# Altium footprint library Passive.PcbLib: 4 footprints
Each footprint in its own frame and in the unit in brackets; x right, y up, seen from the top. Pads: shape width x height; smd on the part's side, far side on the other; paste and mask are expansions set on the pad; w line width, h text height; cw(c..) or ccw(c..) is an arc to the next point about the centre after c.
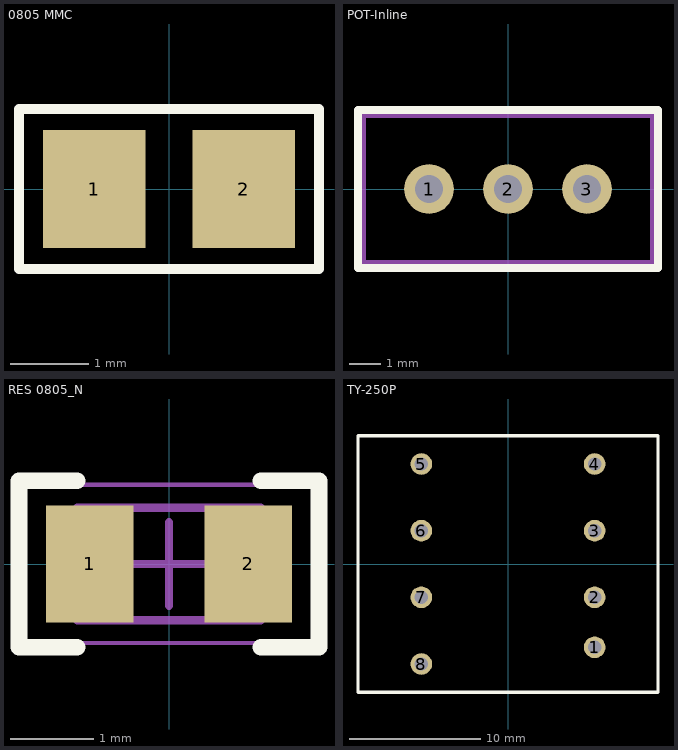
[diagram p0: the footprints below, top view; thin cyan lines are the x and y axes]

## 0805 MMC [mm]
pads (2):
  rect 1.3x1.5 smd: 1(-0.95,0) 2(0.95,0)
Top Overlay:
  lines w0.125: -1.905,-1.016 -1.905,1.016 1.905,1.016 1.905,-1.016 -1.905,-1.016
3D body "0805_RES.stp": height 0.61, standoff 0, extent -1.016,-0.635 0.984,0.615

## POT-Inline [mm]
pads (3):
  round 1.6 hole 0.9 unplated paste+0: 1(-2.54,0) 2(0,0) 3(2.54,0)
Top Overlay:
  lines w0.254: -4.826,-2.54 4.826,-2.54 4.826,2.54 -4.826,2.54 -4.826,-2.54
Mechanical 13:
  lines w0.254: -4.699,-2.413 -4.699,2.413 4.699,2.413 4.699,-2.413 -4.699,-2.413
3D body "pv36w.stp": height 11.62, standoff -6.33, extent -4.763,-2.413 4.762,2.413

## RES 0805_N [mm] "Chip Resistor, Body 2.0x1.3mm, IPC Medium Density"
height 0.7
pads (2):
  rect 1.05x1.4 smd: 1(-0.95,0) 2(0.95,0)
Top Overlay:
  lines w0.2: -1.1,-1 -1.8,-1 -1.8,1 -1.1,1 ; 1.1,-1 1.8,-1 1.8,1 1.1,1
Mechanical 13:
  lines w0.1: -1.1,-0.675 1.1,-0.675 1.1,0.675 -1.1,0.675 -1.1,-0.675
Mechanical 15:
  lines w0.05: -1.75,-0.95 1.75,-0.95 1.75,0.95 -1.75,0.95 -1.75,-0.95
  lines w0.1: -0.5,0 0.5,0 ; 0,-0.5 0,0.5
3D body "SMD RESISTOR-0805.step": height 0.62, standoff 0.02, extent -1,-0.625 1,0.625

## TY-250P [mil]
pads (8):
  round 65 hole 40 unplated paste+0: 1(260,-250) 2(260,-100) 3(260,100) 4(260,300) 5(-260,300) 6(-260,100) 7(-260,-100) 8(-260,-300)
Top Overlay:
  lines w10: -450,-385 450,-385 450,385 -450,385 -450,-385
3D body "Triad Magnetics-TY-250P.STEP": height 685, standoff -125, extent -450,-385 450,385